# EAGLE library part TCA9535PWR (library power_module)
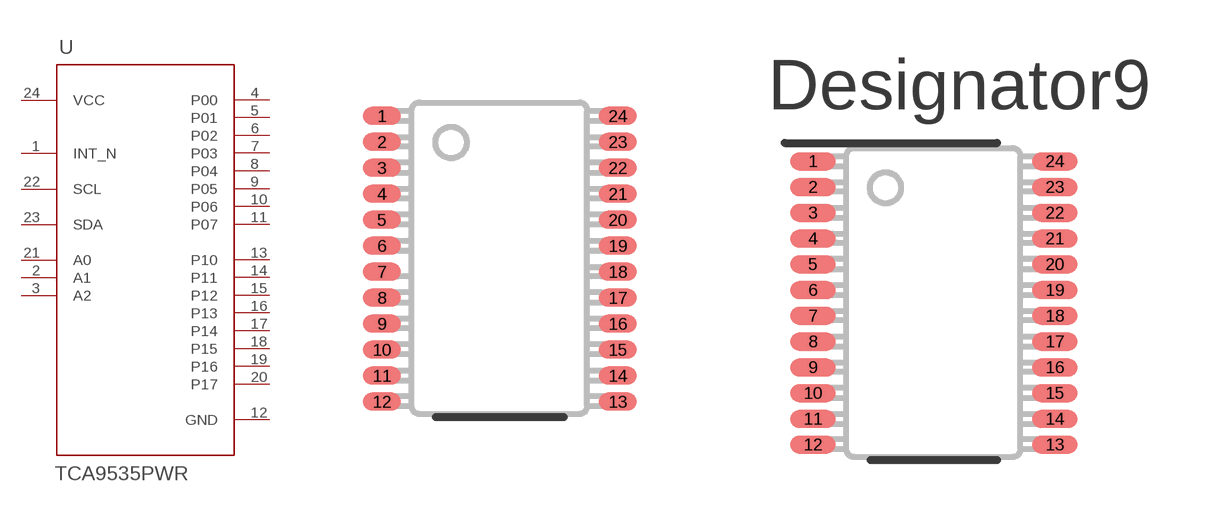
[diagram p9: symbol with the pads of PW0024A_N; footprints PW0024A_N, PW0024A_M]

Designator prefix U

## TCA9535PWR  [PW0024A_N]
1  INT_N  oc
2  A1  in
3  A2  in
4  P00
5  P01
6  P02
7  P03
8  P04
9  P05
10  P06
11  P07
12  GND  pwr
13  P10
14  P11
15  P12
16  P13
17  P14
18  P15
19  P16
20  P17
21  A0  in
22  SCL  in
23  SDA
24  VCC  pwr

## TCA9535PWRPW0024A_M  [PW0024A_M]
Pads as for PW0024A_N

## TCA9535PWRPW0024A_L  [PW0024A_L]
Pads as for PW0024A_N

## Footprint PW0024A_N (pad centres in mm)
smd 0.95 x 0.45: 1 -2.95,3.575; 2 -2.95,2.925; 3 -2.95,2.275; 4 -2.95,1.625; 5 -2.95,0.975; 6 -2.95,0.325; 7 -2.95,-0.325; 8 -2.95,-0.975; 9 -2.95,-1.625; 10 -2.95,-2.275; 11 -2.95,-2.925; 12 -2.95,-3.575; 13 2.95,-3.575; 14 2.95,-2.925; 15 2.95,-2.275; 16 2.95,-1.625; 17 2.95,-0.975; 18 2.95,-0.325; 19 2.95,0.325; 20 2.95,0.975; 21 2.95,1.625; 22 2.95,2.275; 23 2.95,2.925; 24 2.95,3.575

## Footprint PW0024A_M (pad centres in mm)
smd 1.15 x 0.45: 1 -3.05,3.575; 2 -3.05,2.925; 3 -3.05,2.275; 4 -3.05,1.625; 5 -3.05,0.975; 6 -3.05,0.325; 7 -3.05,-0.325; 8 -3.05,-0.975; 9 -3.05,-1.625; 10 -3.05,-2.275; 11 -3.05,-2.925; 12 -3.05,-3.575; 13 3.05,-3.575; 14 3.05,-2.925; 15 3.05,-2.275; 16 3.05,-1.625; 17 3.05,-0.975; 18 3.05,-0.325; 19 3.05,0.325; 20 3.05,0.975; 21 3.05,1.625; 22 3.05,2.275; 23 3.05,2.925; 24 3.05,3.575

## Footprint PW0024A_L (pad centres in mm)
smd 0.8 x 0.4: 1 -2.85,3.575; 2 -2.85,2.925; 3 -2.85,2.275; 4 -2.85,1.625; 5 -2.85,0.975; 6 -2.85,0.325; 7 -2.85,-0.325; 8 -2.85,-0.975; 9 -2.85,-1.625; 10 -2.85,-2.275; 11 -2.85,-2.925; 12 -2.85,-3.575; 13 2.85,-3.575; 14 2.85,-2.925; 15 2.85,-2.275; 16 2.85,-1.625; 17 2.85,-0.975; 18 2.85,-0.325; 19 2.85,0.325; 20 2.85,0.975; 21 2.85,1.625; 22 2.85,2.275; 23 2.85,2.925; 24 2.85,3.575